# Altium schematic symbol library Component.SchLib: 73 symbols
Pins are listed as number, name and electrical type; pins without a type are passive.

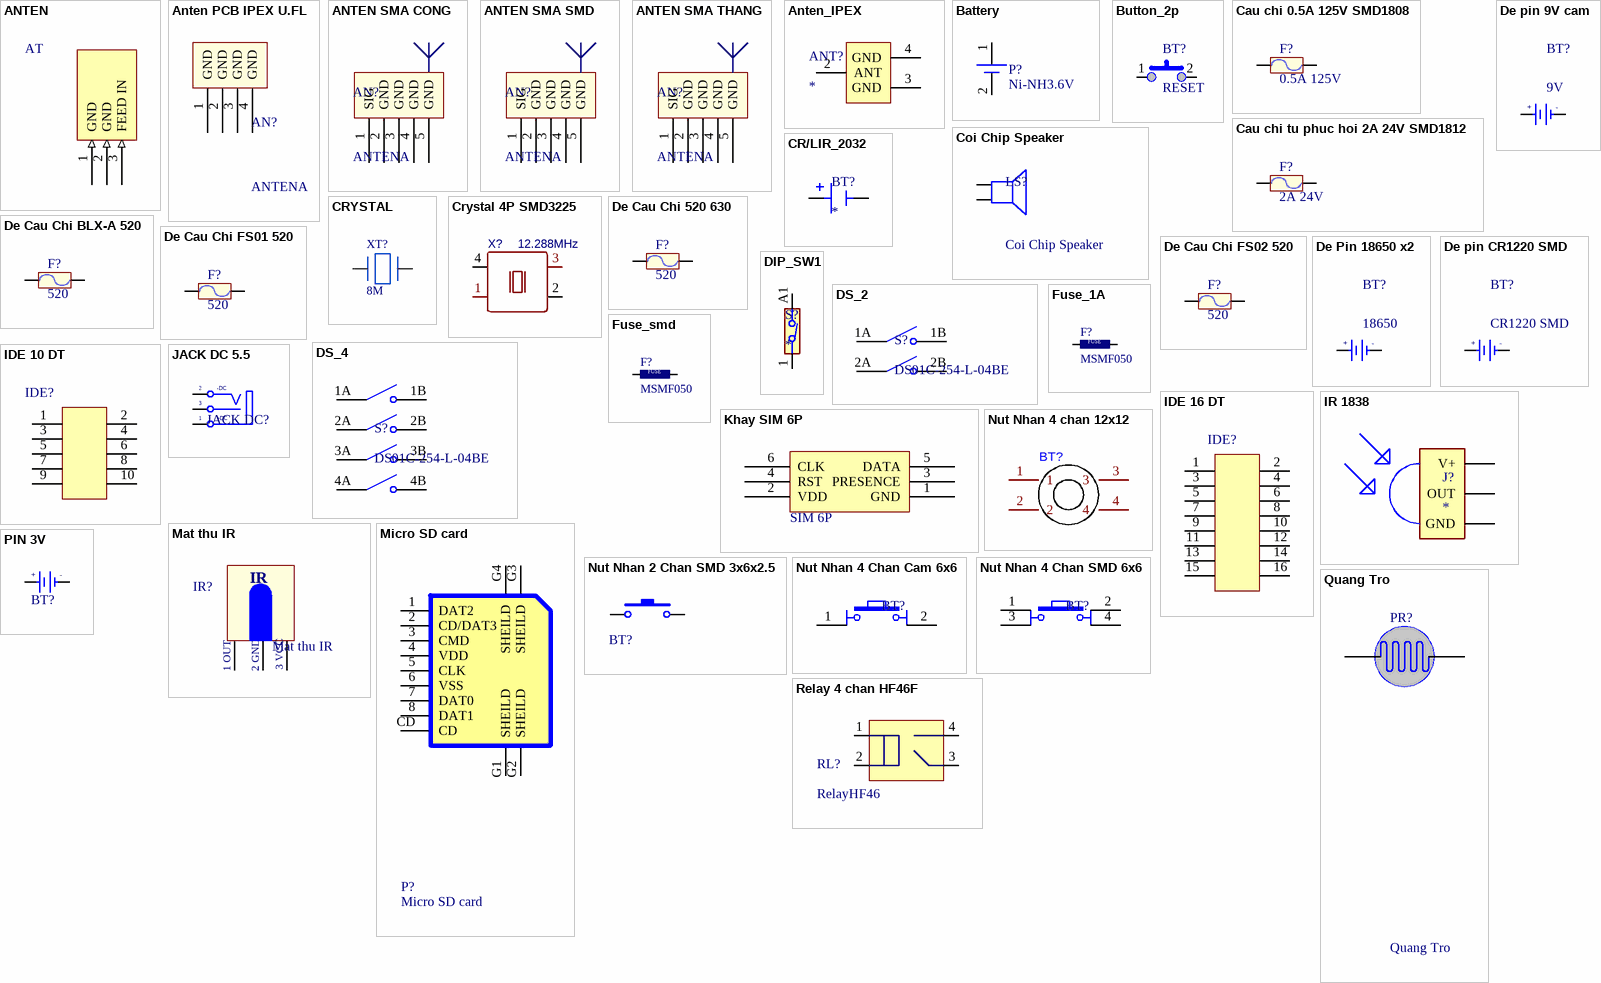
[diagram p0: symbols ANTEN to Relay 4 chan HF46F]

## ANTEN
designator AT
Anten IFA- BLE RANGDONG
footprint Anten IFA
pins: 1 GND (in), 2 GND (in), 3 FEED IN (in)

## Anten PCB IPEX U.FL
designator AN?, comment ANTENA
Dây nối dài Anten PCB IPEX U.FL sang SMA
footprint DE ANTEN SMA CONG 4P
pins: 1 GND, 2 GND, 3 GND, 4 GND

## ANTEN SMA CONG
designator AN?, comment ANTENA
Generic Antenna
footprint DE ANTEN SMA CONG
pins: 1 SIG, 2 GND, 3 GND, 4 GND, 5 GND

## ANTEN SMA SMD
designator AN?, comment ANTENA
Generic Antenna
footprint De Anten SMA SMD
pins: 1 SIG, 2 GND, 3 GND, 4 GND, 5 GND

## ANTEN SMA THANG
designator AN?, comment ANTENA
Generic Antenna
footprint De Anten SMA SMD
footprint DE ANTEN SMA THANG
pins: 1 SIG, 2 GND, 3 GND, 4 GND, 5 GND

## Anten_IPEX
designator ANT?
footprint Anten_IPEX
pins: 2 ANT, 3 GND (power), 4 GND (power)

## Battery
designator P?, comment Ni-NH3.6V
footprint BAT_NI-MH (L-W-H=20x16x16)
pins: 1 +, 2 -

## Button_2p
designator BT?, comment RESET
footprint B3U-1000P (Micro button 3*4*2mm)
footprint B3U-SPST (Micro button 3*4*2mm)
pins: 1, 2

## Cau chi 0.5A 125V SMD1808
designator F?, comment 0.5A 125V
Cau chi 0.5A 125V SMD1808; Ma_Hang: MH009241; Ten: Cầu Chì 0.5A 125V SMD1808 0451.500MRL
footprint Cau Chi SMD1808
pins: 1, 2

## Cau chi tu phuc hoi 2A 24V SMD1812
designator F?, comment 2A 24V
2A 24V SMD1812; Ma_Hang: MH010033; Ten: Cầu Chì Tự Phục Hồi 2A 24V SMD1812
footprint Cau chi tu phuc hoi 2A 24V SMD1812 (Footprint not found)
pins: 1, 2

## Coi Chip Speaker
designator LS?
Còi chip
footprint Coi Chip Speacker
pins: 1, 2

## CR/LIR_2032
designator BT?
Surface Mount Glass Filled Liquid Crystal Polymer CR2032 Battery Holder; MF: Renata; MP: SMTU2032-LF; SnapEDA_Link: https://www.snapeda.com/parts/SMTU2032-LF/Renata/view-part/?ref=snap; Package: None; Value: *; Check_prices: https://www.snapeda.com/parts/SMTU2032-LF/Renata/view-part/?ref=eda
footprint BAT_3032
footprint BAT_CR_LIR_2032
pins: N, P

## CRYSTAL
designator XT?, comment 8M
footprint Cry-5032
pins: 1, 2

## Crystal 4P SMD3225
designator X?, comment 12.288MHz
Crystal 4P SMD3225; BOM_Manufacturer: TAITIEN Elec; BOM_Manufacturer Part: OVETGLJANF-40MHZ; nameAlias: Frequency; Contributor: LCSC; SMT Type: Extend; BOM_Supplier: LCSC; BOM_Supplier Part: C295515; BOM_LCSC Assembly: Yes; spicePre: X; spiceSymbolName: OVETGLJANF-40MHZ
footprint Crystal 4SMD 32x25MM
pins: 1 tri, 2 GND, 3 OUT, 4 VCC

## De Cau Chi 520 630
designator F?, comment 520
5x20mm; Ma_Hang: MH001473; Ten: Đế Cầu Chì 5x20MM 6x30MM SMD01
footprint De Cau Chi 520 630 (De Fuse)
pins: 1, 2

## De Cau Chi BLX-A 520
designator F?, comment 520
5x20mm; Ma_Hang: MH003716; Ten: Đế Cầu Chì BLX-A 5x20MM
footprint De Cau Chi BLX-A 520 (PCB - Clip Cover - THR)
pins: 1, 2

## De Cau Chi FS01 520
designator F?, comment 520
5x20mm; Ma_Hang: MH003640; Ten: Đế Cầu Chì FS01-520 5x20MM
footprint De Cau Chi FS01 520 (FUSEHOLDER BLOCKS - PCB - CLIP COVER - THT - WR-FSH)
pins: 1, 2

## De Cau Chi FS02 520
designator F?, comment 520
5x20mm; Ma_Hang: MH003641; Ten: Đế Cầu Chì FS02-520 5x20MM
footprint De Cau Chi FS02 520 (FUSEHOLDER BLOCKS - PCB - CLIP COVER - THT - WR-FSH)
pins: 1, 2

## De pin 9V cam
designator BT?, comment 9V
De Pin 9V; Ten: Hộp Đế Pin 9V Thường; Ma_Hang: MH002680
footprint De Pin 9V
pins: 1 +3V, 2 GND
text: +; -

## De Pin 18650 x2
designator BT?, comment 18650
De Pin 18650 x2; Ten: Hộp Đế Pin 18650 Hàn Mạch DP 18650-HM-02; Ma_Hang: MH010812
footprint DE PIN 18650 X2 (2-cell AA battery holder)
pins: 1 +3V, 2 GND
text: +; -

## De pin CR1220 SMD
designator BT?, comment CR1220 SMD
Ten: Đế PIN CR1220 SMD; Ma_Hang: MH000833
footprint DE PIN CR1220
pins: 1 +3V, 2 GND
text: +; -

## DIP_SW1
designator S?
Dip Switch SPST 2 Position Through Hole Slide (Standard) Actuator 25mA 24VDC; MF: WÃ¼rth Elektronik; MP: 418117270902; SnapEDA_Link: https://www.snapeda.com/parts/418117270902/W%25C3%25BCrth+Elektronik+Midcom/view-part/?ref=snap; Package: None; Value: *; Check_prices: https://www.snapeda.com/parts/418117270902/W%25C3%25BCrth+Elektronik+Midcom/view-part/?ref=eda
footprint DIP_SW1
pins: 1, A1

## DS_2
designator S?, comment DS01C-254-L-04BE
4 Position, Through Hole, 2.54 mm Pitch, Raised Slide Actuator, Convex Bottom, Long Pin, DIP Switch; MF: Same Sky; SnapEDA_Link: https://www.snapeda.com/parts/DS01C-254-L-04BE/Same+Sky/view-part/?ref=snap; Package: None; Value: *; MP: DS01C-254-L-04BE; Check_prices: https://www.snapeda.com/parts/DS01C-254-L-04BE/Same+Sky/view-part/?ref=eda
footprint DS_2
pins: 1A COM1, 1B NO1, 2A COM2, 2B NO2

## DS_4
designator S?, comment DS01C-254-L-04BE
4 Position, Through Hole, 2.54 mm Pitch, Raised Slide Actuator, Convex Bottom, Long Pin, DIP Switch; MF: Same Sky; SnapEDA_Link: https://www.snapeda.com/parts/DS01C-254-L-04BE/Same+Sky/view-part/?ref=snap; Package: None; Value: *; MP: DS01C-254-L-04BE; Check_prices: https://www.snapeda.com/parts/DS01C-254-L-04BE/Same+Sky/view-part/?ref=eda
footprint DS_4
pins: 1A COM1, 1B NO1, 2A COM2, 2B NO2, 3A COM3, 3B NO3, 4A COM4, 4B NO4

## Fuse_1A
designator F?, comment MSMF050
footprint FUSE_1A
pins: 1, 2
text: FUSE

## Fuse_smd
designator F?, comment MSMF050
footprint FUSE_PTC
pins: 1, 2
text: FUSE

## IDE 10 DT
designator IDE?, comment IDE10  (value not drawn)
footprint IDE 10 DT (Connector; Header; 5x2 Position)
pins: 1, 2, 3, 4, 5, 6, 7, 8, 9, 10

## IDE 16 DT
designator IDE?, comment IDE16  (value not drawn)
footprint IDE16 DT
pins: 1, 2, 3, 4, 5, 6, 7, 8, 9, 10, 11, 12, 13, 14, 15 14, 16 14

## IR 1838
designator J?
IR Receiver and Demodulator; MP: TSOP1838; Value: *; Package: None; Availability: Unavailable; Price: None
footprint IR 1838
pins: GND, OUT, VCC V+

## JACK DC 5.5
designator JACK DC?
JACK DC 5.5; Value: Jac DC
footprint JACK DC 5.5 (Jac DC input)
pins: 1 T "Tip", 2 TN "Tip Normal (Break Contact)", 3 S (power) "Sleeve (Ground)"
text: -DC; +DC

## Khay SIM 6P
designator SIM?, comment SIM 6P
footprint sim6
pins: 1 GND, 2 VDD, 3 PRESENCE, 4 RST, 5 DATA, 6 CLK

## Mat thu IR
designator IR?
Receiver Infraed IC
footprint IR GP1UE26 (Receiver Infared IC)
pins: 1 Out, 2 GND, 3 VCC
text: IR; 1 OUT; 2 GND; 3 VCC

## Micro SD card
designator P?
footprint MicroSD
pins: 1 DAT2, 2 CD/DAT3, 3 CMD, 4 VDD, 5 CLK, 6 VSS, 7 DAT0, 8 DAT1, CD, G1 SHEILD, G2 SHEILD, G3 SHEILD, G4 SHEILD

## Nut Nhan 2 Chan SMD 3x6x2.5
designator BT?
Nut Nhan 2 Chan SMD 3x6x2.5; Ma_Hang: MH001036; Ten: Nút Nhấn 2 Chân 3x6x2.5MM SMD
footprint Nut Nhan 2 Chan SMD 3x6x2.5 (Footprint not found)
pins: 1, 2

## Nut Nhan 4 chan 12x12
designator BT?  (value not drawn)
footprint 12X12 BUTTOM Blue
footprint 12X12 BUTTOM green
footprint 12X12 BUTTOM red
pins: 1, 2, 3, 4

## Nut Nhan 4 Chan Cam 6x6
designator BT?
Nut Nhan 4 Chan 6x6mm; Ten: Nút Nhấn 4 Chân 6x6x5MM DIP; Ma_Hang: MH004584
footprint Nut Nhan 4 Chan Cam 6x6 (Footprint not found)
footprint Botton 6x6 H19mm (SW button 4pin, 250 x250 mil)
pins: 1, 2

## Nut Nhan 4 Chan SMD 6x6
designator BT?
Nut Nhan 4 Chan 6.2x6.2x3.5; Ten: Nút Nhấn 4 Chân 6.2x6.2x3.1MM SMD; Ma_Hang: MH002424
footprint Nut Nhan 4 Chan SMD 6x6 (Footprint not found)
pins: 1, 2, 3, 4

## PIN 3V
designator BT?, comment NI-MH 3.6V 20mAh 3/V20H  (value not drawn)
Battery 3VDC , NI-MH 3.6V 20mAh 3/V20H; Value: PIN 3V
footprint PIN 3.6V 20mAh 3/V20H (batttery)
pins: 1 +3V, 2 GND
text: +; -

## Quang Tro
designator PR?
Photoresistor; Creator: Bien Nguyen
footprint Quang Tro (QUANG TRO)
pins: 1, 2

## Relay 4 chan HF46F
designator RL?, comment RelayHF46
Relay 4 chan HF46F; Ten: Relay 5V5A HF46F-G 5-HS1; Ma_Hang: MH003879
footprint Relay 4 chan HF46F
pins: 1, 2, 3 AC/DC, 4 AC/DC

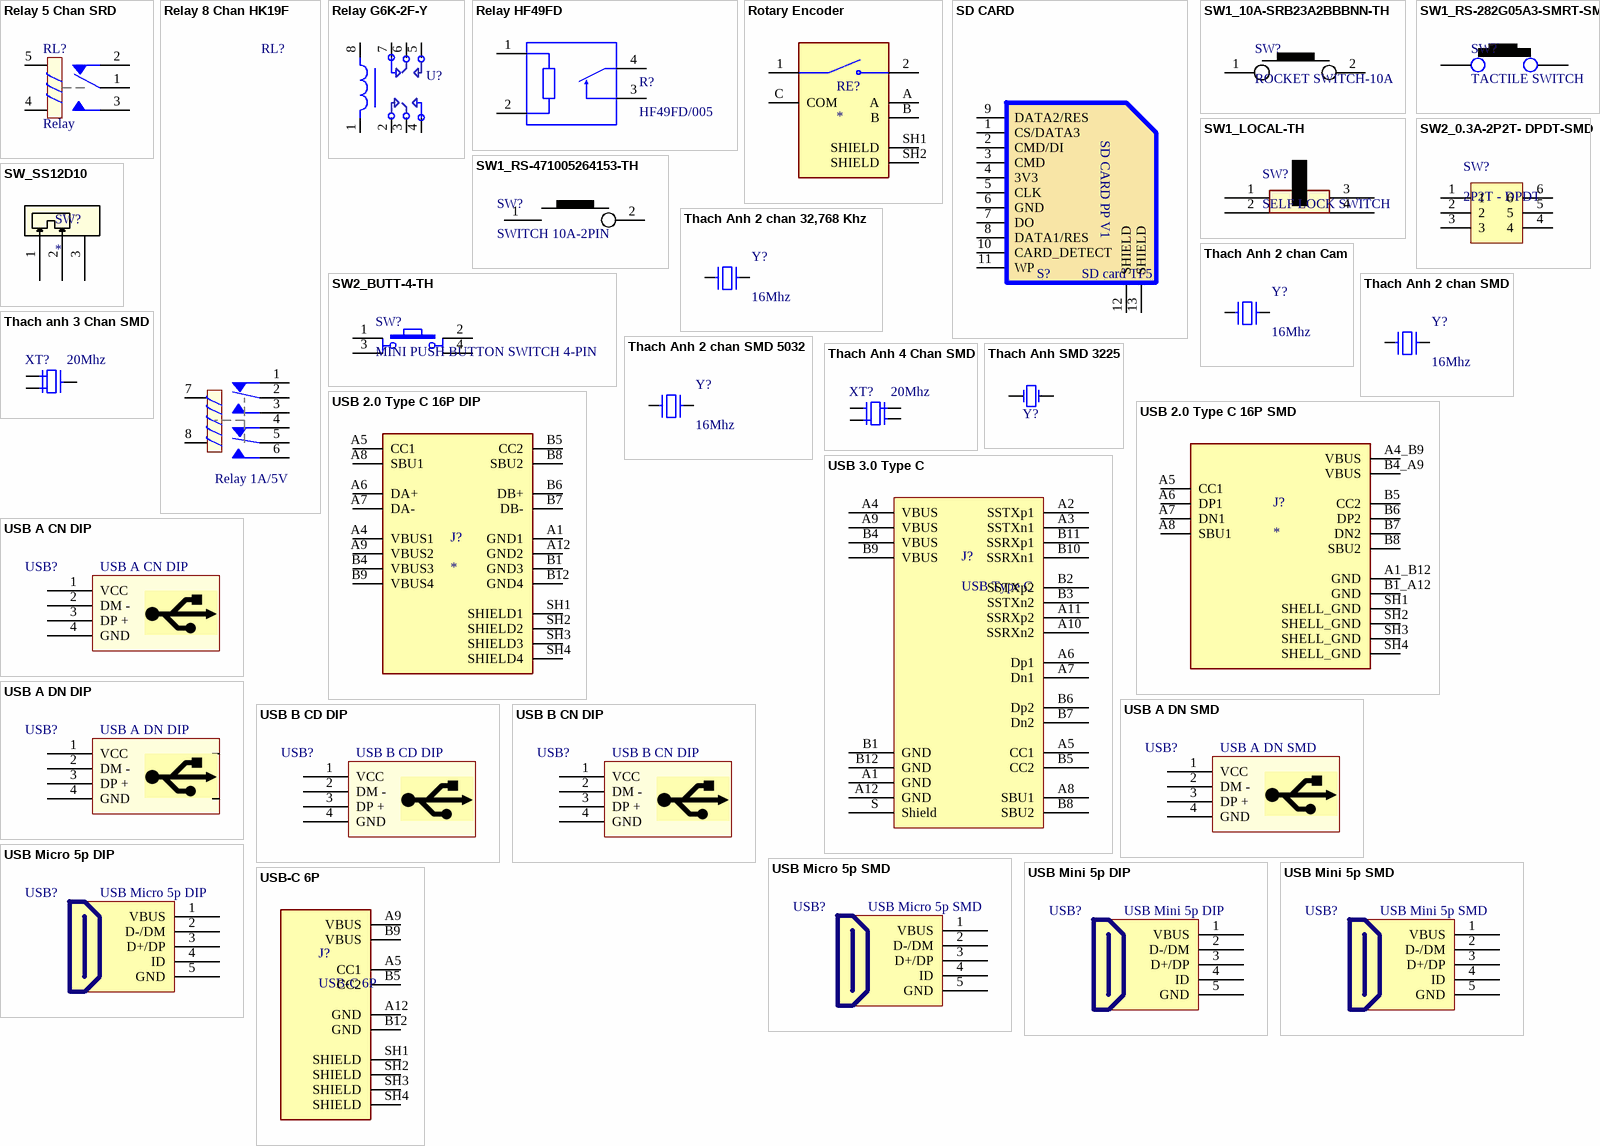
[diagram p1: symbols Relay 5 Chan SRD to USB-C 6P]

## Relay 5 Chan SRD
designator RL?, comment Relay
Relay 5 Chan; Ma_Hang: MH009374; Ten: Relay 5V10A SRD-05VDC-SL-C Chính Hãng
footprint Relay 5 Chan SRD (Footprint not found)
pins: 1, 2, 3, 4, 5

## Relay 8 Chan HK19F
designator RL?, comment Relay 1A/5V
Relay 8 Chan HK19F; Ten: Relay 5V1A 8 Chân HK19F-DC05V-SHG; Ma_Hang: MH001504
footprint Relay 8 Chan HK19F (Footprint not found)
pins: 1, 2, 3, 4, 5, 6, 7, 8

## Relay G6K-2F-Y
designator U?, comment G6K 5VDC  (value not drawn)
Cắm; Ten_Linh_Kien: G6K-2F-Y-DC5; Don_Vi: Con; Ma_Hang: G6K-2F-Y; Chung_Loai: Căm; Kieu_Chan: *; Ghi_Chu: *
footprint RELAY G6K-2F-Y (Reley DPDT, 8 pin, 1A, W400mil, L800mil,H 300mil)
pins: 1, 2, 3, 4, 5, 6, 7, 8

## Relay HF49FD
designator R?, comment HF49FD/005
Relay: electromagnetic; SPST-NO; Ucoil: 5VDC; 5A/250VAC; 5A/30VDC
footprint RELAY_HF49FD/005-1H12T
pins: 1 L1, 2 L2, 3 C2, 4 C1

## Rotary Encoder
designator RE?
MF: Bourns; MP: PEC11R-4215K-S0024; SnapEDA_Link: https://www.snapeda.com/parts/PEC11R-4215K-S0024/Bourns/view-part/?ref=snap; Package: None; Value: *; Check_prices: https://www.snapeda.com/parts/PEC11R-4215K-S0024/Bourns/view-part/?ref=eda
footprint Rotary Encoder
pins: 1, 2, A, B, C COM, SH1 SHIELD, SH2 SHIELD

## SD CARD
designator S?, comment SD card TF5
ComponentLink1Description: New link; ComponentLink1URL: https://www.thegioiic.com/sd-pp-11p-v1-khay-the-nho-sd-11-chan-push-push
footprint SD_CARD_PP_V1
pins: 1 CS/DATA3, 2 CMD/DI, 3 CMD, 4 3V3, 5 CLK, 6 GND, 7 DO, 8 DATA1/RES, 9 DATA2/RES, 10 CARD_DETECT, 11 WP, 12 SHIELD, 13 SHIELD
text: SD CARD PP V1

## SW1_10A-SRB23A2BBBNN-TH
designator SW?, comment ROCKET SWITCH-10A
Rocker Switch SPDT 10A (AC) 125V Panel Mount, Snap-In; Manufacturer: ITT C&K; Manufacturer Part Number: SRB23A2BBBNN; Alternate Part Number-1: NA; Case/Package: TH; Supplier-1: SP ROAD; Supplier Part Number-1: SRB23A2BBBNN
footprint SW_2ARS_TH
pins: 1, 2

## SW1_LOCAL-TH
designator SW?, comment SELF LOCK SWITCH
6 Pin DPDT Mini Push Button Self-locking Switch Multimeter Switch; Manufacturer Part Number: NA; Case/Package: TH; Manufacturer: NA; Supplier-1: SP ROAD; Supplier Part Number-1: NA; Alternate Part Number-1: NA
footprint SW_70_31.5D47_TH_ST
pins: 1, 2, 3, 4

## SW1_RS-282G05A3-SMRT-SMD
designator SW?, comment TACTILE SWITCH
Tactile Switch SPST-NO Top Actuated Surface Mount; Manufacturer: ITT C&K; Manufacturer Part Number: RS-282G05A3-SMRT; Alternate Part Number-1: NA; Case/Package: SMD; Supplier-1: SP ROAD; Supplier Part Number-1: RS-282G05A3-SMRT
footprint SW_342_SMD
pins: 1, 2

## SW1_RS-471005264153-TH
designator SW?, comment SWITCH 10A-2PIN
Rocker Switch SPST 16A (AC), 10A (DC) 250V Panel Mount, Snap-In; Manufacturer: Würth Elektronik; Manufacturer Part Number: 471005264153; Alternate Part Number-1: NA; Case/Package: TH; Supplier-1: Würth Elektronik; Supplier Part Number-1: 471005264153
footprint SW_2ARS_TH
pins: 1, 2

## SW2_0.3A-2P2T- DPDT-SMD
designator SW?, comment 2P2T - DPDT
PCB Mountable Slide Switch. Double Pole, Double Throw = DPDT; Manufacturer: NA; Manufacturer Part Number: NA; Supplier-1: Sunrom; Supplier Part Number-1: 5261; Case/Package: SMD; Alternate Part Number-1: NA
footprint SW_2P2T-DPDT_SMD (PCB Mountable Slide Switch. Double Pole, Double Throw = DPDT)
signal-integrity model Model Name (Model Description)
signal-integrity model Model Name (Model Description)
simulation model Model Name (Model Description)
ibis Model Name (Model Description)
signal-integrity model Model Name (Model Description)
pins: 1, 2, 3, 4, 5, 6

## SW2_BUTT-4-TH
designator SW?, comment MINI PUSH BUTTON SWITCH 4-PIN
Tactile Switches MINI PUSH BUTTON SWITCH 4-PIN QTY. 4; Manufacturer: Gravitech; Manufacturer Part Number: BUTT-4; Alternate Part Number-1: NA; Case/Package: TH; Supplier-1: SP ROAD; Supplier Part Number-1: BUTT-4
footprint SW_70_31.5D47_TH_ST
pins: 1, 2, 3, 4

## SW_SS12D10
designator SW?
SS-12D10 3-Pin Through-Hole Slide Switch ON-OFF 1P2T 0.5A
footprint SW_12D10
pins: 1, 2, 3

## Thach Anh 2 chan 32,768 Khz
designator Y?, comment 16Mhz
Crystal For all Crystal 2pin.; Value: 4Mhz
footprint Thach Anh 2 Chan 32,768 KHz
pins: 1, 2

## Thach Anh 2 chan Cam
designator Y?, comment 16Mhz
Crystal For all Crystal 2pin.; Value: 4Mhz
footprint Thach Anh 2 chan cam
pins: 1, 2

## Thach Anh 2 chan SMD
designator Y?, comment 16Mhz
Crystal For all Crystal 2pin.; Value: 4Mhz
footprint Thach Anh 2 chan SMD (SMD Crystal HC49/US-SM package)
pins: 1, 2

## Thach Anh 2 chan SMD 5032
designator Y?, comment 16Mhz
Crystal For all Crystal 2pin.; Value: 4Mhz
footprint Thach Anh 2 chan SMD5032 (DO-214-AA/SMB; 2 C-Bend Leads; Body 5.3 x 3.6 mm, inc. leads (LxW))
pins: 1, 2

## Thach anh 3 Chan SMD
designator XT?, comment 20Mhz
Crystal For all Crystal 2pin.; Value: 4Mhz
footprint Thach Anh 3 Chan SMD (Footprint not found)
pins: 1, 2, 3

## Thach Anh 4 Chan SMD
designator XT?, comment 20Mhz
Crystal For all Crystal 2pin.; Value: 4Mhz
footprint Thach Anh 4 chan 1 (SMD Crystal 4-lead leadless package)
footprint Thach Anh 4 chan 2
footprint Thach Anh 4 chan 3 (SMD Crystal 4-lead leadless package)
pins: 1, 2, 3, 4

## Thach Anh SMD 3225
designator Y?, comment 32MHz  (value not drawn)
C700805; Chung_Loai: Dán; Ten_Linh_Kien: Thạch Anh 16Mhz SMD5032; Ma_Hang: MH001979; Don_Vi: Con; Ghi_Chu: *; Kieu_Chan: *
footprint THACH ANH DAN 3215 (Thach Anh Dan 5.08mm)
pins: 1 OSC1, 2 OSC2

## USB 2.0 Type C 16P DIP
designator J?
USB-C (USB TYPE-C) USB 2.0 Receptacle Connector 24 (16+8 Dummy) Position Through Hole, Right Angle; MF: Molex; MP: 2137160001; SnapEDA_Link: https://www.snapeda.com/parts/2137160001/Molex/view-part/?ref=snap; Package: None; Value: *; Check_prices: https://www.snapeda.com/parts/2137160001/Molex/view-part/?ref=eda
footprint Type C 16P DIP
pins: A1 GND1 (power), A4 VBUS1 (power), A5 CC1, A6 DA+, A7 DA-, A8 SBU1, A9 VBUS2 (power), A12 GND2 (power), B1 GND3 (power), B4 VBUS3 (power), B5 CC2, B6 DB+, B7 DB-, B8 SBU2, B9 VBUS4 (power), B12 GND4 (power), SH1 SHIELD1, SH2 SHIELD2, SH3 SHIELD3, SH4 SHIELD4

## USB 2.0 Type C 16P SMD
designator J?
USB CONN, 2.0 TYPE C, RCPT, 16POS, SMT; USB Connector Type:USB Type C; USB Standard:USB 2.0; Gender:Receptacle; No. of Positions:16Positions; Connector Mounting:Surface Mount, Through Hole Mount; Orientation:Right Angle RoHS Compliant: Yes; MF: Global Connector Technology; MP: USB4105GFA120; SnapEDA_Link: https://www.snapeda.com/parts/USB4105GFA120/Global+Connector+Technology/view-part/?ref=snap; Package: None; Value: *; Check_prices: https://www.snapeda.com/parts/USB4105GFA120/Global+Connector+Technology/view-part/?ref=eda
footprint TYPE C 16P SMD
pins: A1_B12 GND (power), A4_B9 VBUS (power), A5 CC1, A6 DP1, A7 DN1, A8 SBU1, B1_A12 GND (power), B4_A9 VBUS (power), B5 CC2, B6 DP2, B7 DN2, B8 SBU2, SH1 SHELL_GND (power), SH2 SHELL_GND (power), SH3 SHELL_GND (power), SH4 SHELL_GND (power)

## USB 3.0 Type C
designator J?, comment USB Type C
footprint USB TYPE C 3.2 24pin (USB-C Receptacle Connector 24 Position Surface Mount, 24 Position, Body 8.94x7.90mm)
pins: A1 GND, A2 SSTXp1, A3 SSTXn1, A4 VBUS, A5 CC1, A6 Dp1, A7 Dn1, A8 SBU1, A9 VBUS, A10 SSRXn2, A11 SSRXp2, A12 GND, B1 GND, B2 SSTXp2, B3 SSTXn2, B4 VBUS, B5 CC2, B6 Dp2, B7 Dn2, B8 SBU2, B9 VBUS, B10 SSRXn1, B11 SSRXp1, B12 GND, S Shield

## USB A CN DIP
designator USB?
USB Type A; Ten: USB A Cái DIP; Ma_Hang: MH000941
footprint USB A CN DIP (THT, USB 2.0 A Connector, 4Pin, Body 15.8 x14.5mm)
pins: 1 VCC, 2 DM -, 3 DP +, 4 GND

## USB A DN DIP
designator USB?
USB Type A; Ten: USB A Đực DIP; Ma_Hang: MH000940
footprint USB A DN DIP
pins: 1 VCC, 2 DM -, 3 DP +, 4 GND, 5, 6

## USB A DN SMD
designator USB?
USB Type A; Ten: USB A Đực SMD USB-A-S01; Ma_Hang: MH000938
footprint USB A DN SMD (For USB SMD)
pins: 1 VCC, 2 DM -, 3 DP +, 4 GND

## USB B CD DIP
designator USB?
USB Type B; Ten: USB B Cái 180 (Loại Đứng); Ma_Hang: MH007927
footprint USB B CD DIP
pins: 1 VCC, 2 DM -, 3 DP +, 4 GND

## USB B CN DIP
designator USB?
USB Type B; Ten: USB B Cái DIP; Ma_Hang: MH000939
footprint USB B CN DIP
pins: 1 VCC, 2 DM -, 3 DP +, 4 GND

## USB Micro 5p DIP
designator USB?
USB Type B; Ten: MicroUSB MK5P DIP; Ma_Hang: MH005145
footprint USB Micro 5p DIP
pins: 1 VBUS, 2 D-/DM, 3 D+/DP, 4 ID, 5 GND

## USB Micro 5p SMD
designator USB?
USB Type B; Ten: MicroUSB MK5P SMD; Ma_Hang: MH001020
footprint USB Micro 5p SMD
pins: 1 VBUS, 2 D-/DM, 3 D+/DP, 4 ID, 5 GND

## USB Mini 5p DIP
designator USB?
USB Type B; Ten: MiniUSB 5P DIP; Ma_Hang: MH001021
footprint USB Mini 5p DIP
pins: 1 VBUS, 2 D-/DM, 3 D+/DP, 4 ID, 5 GND

## USB Mini 5p SMD
designator USB?
USB Type B; Ten: MiniUSB 5P SMD; Ma_Hang: MH001022
footprint USB Mini 5p SMD
pins: 1 VBUS, 2 D-/DM, 3 D+/DP, 4 ID, 5 GND

## USB-C 6P
designator J?
Type C, 20 Vdc, 3 A, Right Angle, Gold Flash, Surface Mount, Black Insulator, Power-Only USB Receptacle; MF: Same Sky; MP: UJC-HP-G-5-SMT-TR; SnapEDA_Link: https://www.snapeda.com/parts/UJC-HP-G-5-SMT-TR/Same+Sky/view-part/?ref=snap; Package: None; Value: *; Check_prices: https://www.snapeda.com/parts/UJC-HP-G-5-SMT-TR/Same+Sky/view-part/?ref=eda; taobao: https://item.taobao.com/item.htm?id=737583086190&skuId=5261678138786
footprint USB-C 6P - DIP (USB-C 6P)
pins: A5 CC1, A9 VBUS (power), A12 GND (power), B5 CC2, B9 VBUS (power), B12 GND (power), SH1 SHIELD, SH2 SHIELD, SH3 SHIELD, SH4 SHIELD